# EAGLE library part FH12-45S-0.5SH(55) (library FH12-45S-0.5SH_55_)
FFC / FPC Board Connector, FH12 Series, Surface Mount, Receptacle, 45, Bottom, 0.5 mm
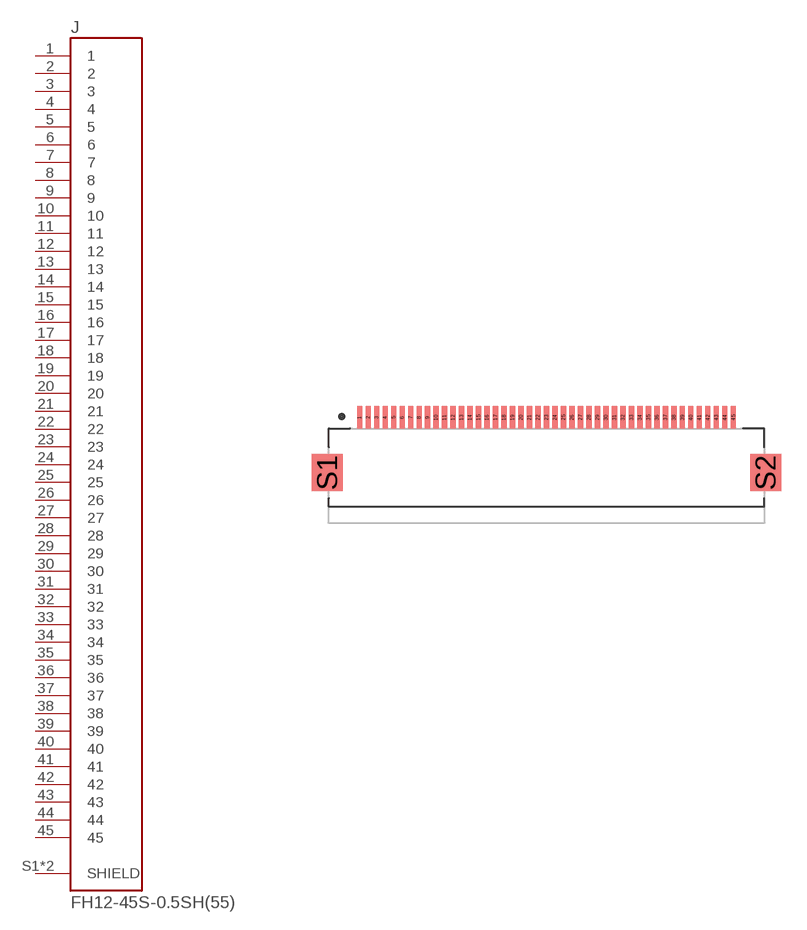
[diagram p0: symbol with the pads of HRS_FH12-45S-0.5SH(55); footprint HRS_FH12-45S-0.5SH(55)]

Designator prefix J

## FH12-45S-0.5SH(55) (Description: 45 Position FFC, FPC Connector Contacts, Bottom 0.020 (0.50mm) Surface Mount, Right Angle; Digi-Key_Part_Number: HFJ145CT-ND; MF: Hirose Electric; MP: FH12-45S-0.5SH(55); Package: None; Purchase-URL: https://pricing.snapeda.com/search/part/FH12-45S-0.5SH(55)/?ref=eda)  [HRS_FH12-45S-0.5SH(55)]
1  1  pas
2  2  pas
3  3  pas
4  4  pas
5  5  pas
6  6  pas
7  7  pas
8  8  pas
9  9  pas
10  10  pas
11  11  pas
12  12  pas
13  13  pas
14  14  pas
15  15  pas
16  16  pas
17  17  pas
18  18  pas
19  19  pas
20  20  pas
21  21  pas
22  22  pas
23  23  pas
24  24  pas
25  25  pas
26  26  pas
27  27  pas
28  28  pas
29  29  pas
30  30  pas
31  31  pas
32  32  pas
33  33  pas
34  34  pas
35  35  pas
36  36  pas
37  37  pas
38  38  pas
39  39  pas
40  40  pas
41  41  pas
42  42  pas
43  43  pas
44  44  pas
45  45  pas
S1  SHIELD  pas
S2  SHIELD  pas

## Footprint HRS_FH12-45S-0.5SH(55) (pad centres in mm)
smd 0.3 x 1.3: 1 -11,2.8; 2 -10.5,2.8; 3 -10,2.8; 4 -9.5,2.8; 5 -9,2.8; 6 -8.5,2.8; 7 -8,2.8; 8 -7.5,2.8; 9 -7,2.8; 10 -6.5,2.8; 11 -6,2.8; 12 -5.5,2.8; 13 -5,2.8; 14 -4.5,2.8; 15 -4,2.8; 16 -3.5,2.8; 17 -3,2.8; 18 -2.5,2.8; 19 -2,2.8; 20 -1.5,2.8; 21 -1,2.8; 22 -0.5,2.8; 23 0,2.8; 24 0.5,2.8; 25 1,2.8; 26 1.5,2.8; 27 2,2.8; 28 2.5,2.8; 29 3,2.8; 30 3.5,2.8; 31 4,2.8; 32 4.5,2.8; 33 5,2.8; 34 5.5,2.8; 35 6,2.8; 36 6.5,2.8; 37 7,2.8; 38 7.5,2.8; 39 8,2.8; 40 8.5,2.8; 41 9,2.8; 42 9.5,2.8; 43 10,2.8; 44 10.5,2.8; 45 11,2.8
smd 1.8 x 2.2: S1 -12.9,-0.45; S2 12.9,-0.45